# Altium schematic symbol library Fusível SMD.SchLib: 1 symbol
Pins are listed as number, name and electrical type; pins without a type are passive.

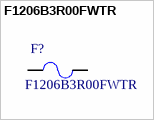
[diagram p0: symbol F1206B3R00FWTR]

## F1206B3R00FWTR
designator F?
F1206B Series Fast Acting 63 V 3 A 1206 Surface Mount Thin-Film Fuse T&R; MF: AVX; SnapEDA_Link: https://www.snapeda.com/parts/F1206B3R00FWTR/AVX%20/%20Kyocera/view-part/?ref=snap; Package: 1206 AVX; MP: F1206B3R00FWTR; Availability: Unavailable; Price: None; Value: *
footprint *FUSM3216X140N
pins: 1, 2